# Altium footprint library HGD_Update-20200515.PcbLib: 19 footprints (part 1 of 2)
Each footprint in its own frame and in the unit in brackets; x right, y up, seen from the top. Pads: shape width x height; smd on the part's side, far side on the other; paste and mask are expansions set on the pad; w line width, h text height; cw(c..) or ccw(c..) is an arc to the next point about the centre after c.
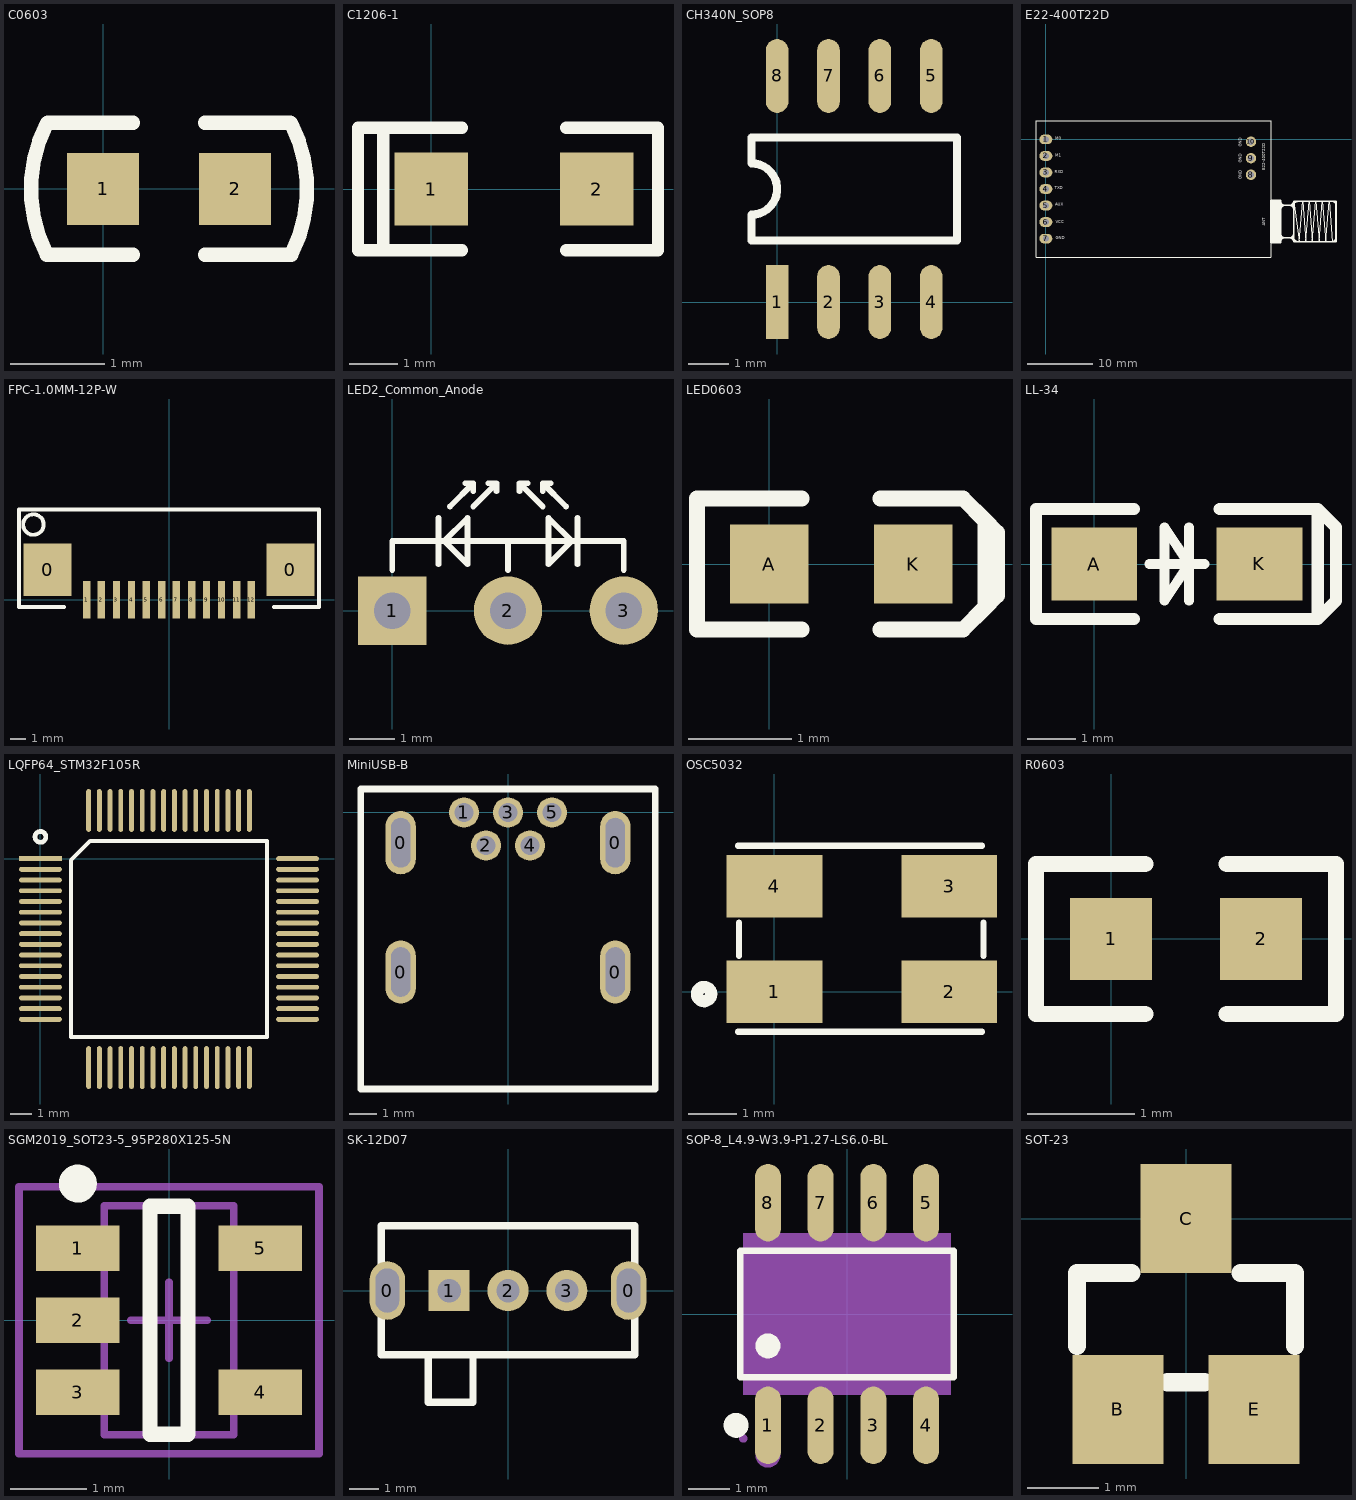
[diagram p0: the footprints below, top view; thin cyan lines are the x and y axes]

## C0603 [mil]
pads (2):
  rect 30x30 smd: 1(0,0) 2(55,0)
Top Overlay:
  lines w6: -23.36,-27.5 cw(c30,-0.07) -23.33,27.42 ; -23,-27.5 12.5,-27.5 ; -23,27.5 12.5,27.5 ; 42.5,-27.5 78,-27.5 ; 42.5,27.5 78,27.5 ; 78.36,-27.5 ccw(c25,-0.07) 78.33,27.42

## C1206-1 [mil] "C1206封装钽电容"
pads (2):
  rect 60x60 smd: 1(0,0) 2(135,0)
Top Overlay:
  lines w10: -39.37,-50 -39.37,50 ; 25,-50 -60,-50 -60,50 25,50 ; 110,-50 185,-50 185,50 110,50

## CH340N_SOP8 [mil]
pads (8):
  rect 22x72 smd: 1(0,0)
  oval 22x72 smd: 2(50,0) 3(100,0) 4(150,0) 5(150,220) 6(100,220) 7(50,220) 8(0,220)
Top Overlay:
  lines w8: -25,60 -25,85 ccw(c-25,110) -25,135 -25,160 175,160 175,60 -25,60

## E22-400T22D [mm]
pads (10):
  oval 2x1.5 hole 0.9: 1(0,0) 2(0,-2.54) 3(0,-5.08) 4(0,-7.62) 5(0,-10.16) 6(0,-12.7) 7(0,-15.24)
  round 1.6 hole 1: 8(31.49,-5.43) 9(31.49,-2.89) 10(31.49,-0.35)
Top Overlay:
  rectangle: 34.571,-15.853 36.071,-9.353
  rectangle: 34.572,-15.858 36.072,-9.358
  lines w0.1: 38.89,-15.72 38.04,-9.52 38.89,-15.72 ; 38.89,-15.72 39.41,-9.52 ; 38.89,-15.72 39.41,-9.52 ; 39.41,-9.52 39.92,-15.72 ; 39.41,-9.52 39.92,-15.72 ; 39.92,-15.72 40.43,-9.52 ; 39.92,-15.72 40.43,-9.52 ; 40.43,-9.52 40.91,-15.72 ; 40.43,-9.52 40.91,-15.72 ; 40.91,-15.72 41.43,-9.52 ; 40.91,-15.72 41.43,-9.52 ; 41.43,-9.52 41.94,-15.72 ; 41.43,-9.52 41.94,-15.72 ; 41.94,-15.72 42.43,-9.52 ; 41.94,-15.72 42.43,-9.52 ; 42.43,-9.52 42.95,-15.72 ; 42.43,-9.52 42.95,-15.72 ; 42.95,-15.72 43.47,-9.52 ; 42.95,-15.72 43.47,-9.52 ; 43.47,-9.52 43.98,-15.72 43.47,-9.52 ; -1.51,-18.12 -1.51,2.88 34.558,2.88 34.558,-18.12 -1.51,-18.12
  lines w0.254: 34.54,-15.87 34.54,-9.37 ; 34.54,-15.87 36.04,-15.87 ; 34.54,-15.87 34.54,-9.37 ; 34.54,-15.87 36.04,-15.87 ; 34.54,-9.37 36.04,-9.37 ; 34.54,-9.37 36.04,-9.37 ; 36.04,-15.87 36.04,-9.37 ; 36.04,-15.87 36.04,-9.37 ; 36.04,-14.47 ccw(c36.69,-14.47) 36.69,-15.12 cw(c36.69,-14.47) 36.04,-14.47 ; 36.04,-14.47 36.04,-14.1 36.04,-14.47 ; 36.04,-10.82 cw(c36.74,-10.82) 36.74,-10.12 ; 36.04,-10.82 cw(c36.74,-10.82) 36.74,-10.12 ; 36.04,-10.82 36.04,-11.74 36.04,-10.82 ; 36.04,-9.49 ccw(c36.67,-9.49) 36.67,-10.12 ; 36.04,-9.49 ccw(c36.67,-9.49) 36.67,-10.12 ; 36.04,-9.49 36.04,-9.37 ; 36.04,-9.49 36.04,-9.37 ; 36.59,-15.12 ccw(c36.59,-15.67) 36.04,-15.67 cw(c36.59,-15.67) 36.59,-15.12 ; 36.59,-15.12 37.44,-15.12 ; 36.59,-15.12 37.44,-15.12 ; 36.67,-10.12 37.44,-10.12 ; 36.67,-10.12 37.44,-10.12 ; 36.74,-10.12 37.44,-10.12 ; 36.74,-10.12 37.44,-10.12 ; 37.41,-15.12 ccw(c37.41,-14.49) 38.04,-14.49 cw(c37.41,-14.49) 37.41,-15.12 ; 37.41,-15.12 36.69,-15.12 37.41,-15.12 ; 37.44,-15.12 cw(c37.44,-15.72) 38.04,-15.72 ; 37.44,-15.12 cw(c37.44,-15.72) 38.04,-15.72 ; 37.44,-10.12 ccw(c37.44,-9.52) 38.04,-9.52 ; 37.44,-10.12 cw(c37.44,-10.72) 38.04,-10.72 ccw(c37.44,-10.72) 37.44,-10.12 ; 37.44,-10.12 ccw(c37.44,-9.52) 38.04,-9.52 ; 38.04,-15.72 44.54,-15.72 ; 38.04,-15.72 38.04,-9.52 ; 38.04,-15.72 44.54,-15.72 ; 38.04,-15.72 38.04,-9.52 ; 38.04,-9.52 44.54,-9.52 ; 38.04,-9.52 44.54,-9.52 ; 38.72,-15.72 cw(c38.72,-15.04) 38.04,-15.04 ccw(c38.72,-15.04) 38.72,-15.72 ; 38.72,-15.72 38.87,-15.72 38.72,-15.72 ; 43.92,-15.72 ccw(c43.92,-15.1) 44.54,-15.1 cw(c43.92,-15.1) 43.92,-15.72 ; 43.92,-15.72 43.69,-15.72 43.92,-15.72 ; 44,-9.52 cw(c44,-10.06) 44.54,-10.06 ccw(c44,-10.06) 44,-9.52 ; 44,-9.52 43.6,-9.52 44,-9.52 ; 44.54,-15.72 44.54,-9.52 ; 44.54,-15.72 44.54,-9.52 ; 35.87,-15.12 38.04,-15.12 35.87,-15.12 ; 36.04,-10.12 38.04,-10.12 36.04,-10.12 ; 38.04,-10.13 cw(c38.65,-10.13) 38.65,-9.52 ccw(c38.65,-10.13) 38.04,-10.13
  text "E22-400T22D" at 33.806,-4.771 h0.76
  text "GND" at 30.206,-6.121 h0.76
  text "GND" at 30.206,-3.621 h0.76
  text "GND" at 30.206,-1.121 h0.76
  text "ANT" at 33.831,-13.271 h0.76
  text "M0" at 1.473,-0.229 h0.76
  text "M1" at 1.422,-2.845 h0.76
  text "RXD" at 1.397,-5.334 h0.76
  text "TXD" at 1.368,-7.823 h0.76
  text "AUX" at 1.422,-10.338 h0.76
  text "VCC" at 1.549,-13.005 h0.76
  text "GND" at 1.499,-15.469 h0.76

## FPC-1.0MM-12P-W [mm] "FPC-1.0MM-12P-W：卧式，抽拉式上接，12P"
height 2.5
pads (14):
  rect 3.2x3.5 smd: 0(-8.1,2) 0(8.1,2)
  rect 0.5x2.5 smd: 1(-5.5,0) 2(-4.5,0) 3(-3.5,0) 4(-2.5,0) 5(-1.5,0) 6(-0.5,0) 7(0.5,0) 8(1.5,0) 9(2.5,0) 10(3.5,0) 11(4.5,0) 12(5.5,0)
Top Overlay:
  circle w0.254: c-9.04,5.004 r0.683
  lines w0.254: -7,-0.5 -10,-0.5 -10,6 10,6 10,-0.5 7,-0.5

## LED2_Common_Anode [mm] "LED2_Common_Anode：双色3mm共阳极LED"
pads (3):
  rect 1.5x1.5 hole 0.8: 1(0,0)
  round 1.5 hole 0.8: 2(2.54,0) 3(5.08,0)
Top Overlay:
  lines w0.127: 0,0.889 0,1.524 2.54,1.524 ; 1.016,1.016 1.016,2.032 ; 1.27,2.286 1.778,2.794 ; 1.6,2.794 1.778,2.794 ; 1.778,2.286 2.286,2.794 ; 1.778,2.616 1.778,2.794 ; 2.108,2.794 2.286,2.794 ; 2.286,2.616 2.286,2.794 ; 2.794,2.616 2.794,2.794 ; 2.972,2.794 2.794,2.794 ; 3.302,2.286 2.794,2.794 ; 3.302,2.616 3.302,2.794 ; 3.48,2.794 3.302,2.794 ; 3.81,2.286 3.302,2.794 ; 4.064,1.016 4.064,2.032 ; 5.08,0.889 5.08,1.524 2.54,1.524 ; 2.54,1.524 2.54,0.889 2.54,1.524 ; 1.143,1.524 1.651,1.016 1.651,2.032 1.143,1.524 ; 3.429,1.016 3.937,1.524 3.429,2.032 3.429,1.016

## LED0603 [mil]
pads (2):
  rect 30x30 smd: A(0,0) K(55,0)
Top Overlay:
  lines w6: 12.5,-25 -27.5,-25 -27.5,25 12.5,25 ; 42.5,-25 74,-25 82.5,-16.5 ; 42.5,25 74,25 82.5,16.5 ; 82.5,-16.5 82.5,16.5 ; 82.5,-16.5 87,-12 87,12 82.5,16.5

## LL-34 [mil] "开关二极管LL-34封装"
pads (2):
  rect 70x60 smd: A(0,0) K(135,0)
Top Overlay:
  lines w8: 45,0 90,0 ; 77.5,-30 77.5,30 ; 57.5,-30 77.5,0 57.5,30 57.5,-30
  lines w10: 32.5,-45 -47.5,-45 -47.5,45 32.5,45 ; 102.5,-45 182.5,-45 ; 102.5,45 182.5,45 ; 182.5,-45 197.5,-30 197.5,30 182.5,45 ; 182.5,-45 182.5,45

## LQFP64_STM32F105R [mm]
pads (64):
  rect 2x0.229 smd: 1(0,0)
  oval 2x0.229 smd: 2(0,-0.5) 3(0,-1) 4(0,-1.5) 5(0,-2) 6(0,-2.5) 7(0,-3) 8(0,-3.5) 9(0,-4) 10(0,-4.5) 11(0,-5) 12(0,-5.5) 13(0,-6) 14(0,-6.5) 15(0,-7) 16(0,-7.5) 33(12,-7.5) 34(12,-7) 35(12,-6.5) 36(12,-6) 37(12,-5.5) 38(12,-5) 39(12,-4.5) 40(12,-4) 41(12,-3.5) 42(12,-3) 43(12,-2.5) 44(12,-2) 45(12,-1.5) 46(12,-1) 47(12,-0.5) 48(12,0)
  oval 0.229x2 smd: 17(2.25,-9.75) 18(2.75,-9.75) 19(3.25,-9.75) 20(3.75,-9.75) 21(4.25,-9.75) 22(4.75,-9.75) 23(5.25,-9.75) 24(5.75,-9.75) 25(6.25,-9.75) 26(6.75,-9.75) 27(7.25,-9.75) 28(7.75,-9.75) 29(8.25,-9.75) 30(8.75,-9.75) 31(9.25,-9.75) 32(9.75,-9.75) 49(9.75,2.25) 50(9.25,2.25) 51(8.75,2.25) 52(8.25,2.25) 53(7.75,2.25) 54(7.25,2.25) 55(6.75,2.25) 56(6.25,2.25) 57(5.75,2.25) 58(5.25,2.25) 59(4.75,2.25) 60(4.25,2.25) 61(3.75,2.25) 62(3.25,2.25) 63(2.75,2.25) 64(2.25,2.25)
Top Overlay:
  circle w0.22: c0,1.016 r0.254
  lines w0.203: 1.428,-8.322 10.572,-8.322 10.572,0.822 2.317,0.822 1.428,-0.067 1.428,-8.322

## MiniUSB-B [mm]
pads (9):
  oval 1.1x2.3 hole 0.7 slot 1.8 at 90 deg: 0(-3.9,-5.8) 0(-3.9,-1.1) 0(3.9,-5.8) 0(3.9,-1.1)
  round 1.1 hole 0.7: 1(-1.6,0) 2(-0.8,-1.2) 3(0,0) 4(0.8,-1.2) 5(1.6,0)
Top Overlay:
  lines w0.254: -5.354,-10.054 5.354,-10.054 5.354,0.854 -5.354,0.854 -5.354,-10.054

## OSC5032 [mm]
pads (4):
  rect 2x1.3 smd: 1(0,0) 2(3.65,0) 3(3.65,2.2) 4(0,2.2)
Top Overlay:
  circle w0.254: c-1.469,-0.051 r0.148
  lines w0.127: -0.762,-0.838 4.338,-0.838 ; -0.762,3.048 4.338,3.048 ; -0.737,0.748 -0.737,1.448 ; 4.369,0.748 4.369,1.448

## R0603 [mil]
pads (2):
  rect 30x30 smd: 1(0,0) 2(55,0)
Top Overlay:
  lines w6: 12.5,-27.5 -27.5,-27.5 -27.5,27.5 12.5,27.5 ; 42.5,-27.5 82.5,-27.5 82.5,27.5 42.5,27.5

## SGM2019_SOT23-5_95P280X125-5N [mm] "SOT23, 5-Leads, Body 3.0x3.0mm (max), Pitch 0.95mm, IPC Medium Density"
height 1.25
pads (5):
  rect 1.1x0.6 smd: 1(-1.2,0.95) 2(-1.2,0) 3(-1.2,-0.95) 4(1.2,-0.95) 5(1.2,0.95)
Top Overlay:
  circle w0.25: c-1.2,1.8 r0.125
  lines w0.2: -0.25,-1.5 0.25,-1.5 0.25,1.5 -0.25,1.5 -0.25,-1.5
Mechanical 13:
  lines w0.1: -0.85,-1.51 -0.85,1.51 0.85,1.51 0.85,-1.51 -0.85,-1.51
Mechanical 15:
  lines w0.1: -0.5,0 0.5,0 ; 0,-0.5 0,0.5 ; -1.975,-1.76 -1.975,1.76 1.975,1.76 1.975,-1.76 -1.975,-1.76
3D body: height 1.25, standoff 0.1, extent -0.85,-1.51 0.85,1.51

## SK-12D07 [mm]
pads (5):
  oval 1.2x2 hole 0.8 slot 1.5 at 90 deg: 0(-4.115,0) 0(4.115,0)
  rect 1.4x1.4 hole 0.8: 1(-2.007,0)
  round 1.4 hole 0.8: 2(0,0) 3(2.007,0)
Top Overlay:
  lines w0.254: -2.718,-2.184 -2.718,-3.81 -1.219,-3.81 ; -1.194,-3.81 -1.194,-2.184 ; -4.318,-2.184 4.318,-2.184 4.318,2.21 -4.318,2.21 -4.318,-2.184

## SOP-8_L4.9-W3.9-P1.27-LS6.0-BL [mm]
pads (8):
  oval 0.63x1.865 smd: 1(-1.905,-2.682) 2(-0.635,-2.682) 3(0.635,-2.682) 4(1.905,-2.682) 5(1.905,2.682) 6(0.635,2.682) 7(-0.635,2.682) 8(-1.905,2.682)
Top Overlay:
  circle w0.3: c-2.672,-2.682 r0.15
  circle w0.3: c-1.905,-0.769 r0.15
  lines w0.152: -2.576,-1.521 2.576,-1.521 2.576,1.521 -2.576,1.521 -2.576,-1.521
Mechanical 4:
  region: -2.5,-1.95 -2.5,1.95 2.5,1.95 2.5,-1.95
Mechanical 5:
  region: -2.115,-3 -2.115,-2.165 -1.695,-2.165 -1.695,-3
  pour cut-out: -2.115,-2.175 -2.115,-1.94 -1.695,-1.94 -1.695,-2.175
  region: -0.845,-3 -0.845,-2.165 -0.425,-2.165 -0.425,-3
  pour cut-out: -0.845,-2.175 -0.845,-1.94 -0.425,-1.94 -0.425,-2.175
  region: 0.425,-3 0.425,-2.165 0.845,-2.165 0.845,-3
  pour cut-out: 0.425,-2.175 0.425,-1.94 0.845,-1.94 0.845,-2.175
  region: 1.695,-3 1.695,-2.165 2.115,-2.165 2.115,-3
  pour cut-out: 1.695,-2.175 1.695,-1.94 2.115,-1.94 2.115,-2.175
  region: -2.115,2.165 -2.115,3 -1.695,3 -1.695,2.165
  pour cut-out: -2.115,1.94 -2.115,2.175 -1.695,2.175 -1.695,1.94
  region: -0.845,2.165 -0.845,3 -0.425,3 -0.425,2.165
  pour cut-out: -0.845,1.94 -0.845,2.175 -0.425,2.175 -0.425,1.94
  region: 0.425,2.165 0.425,3 0.845,3 0.845,2.165
  pour cut-out: 0.425,1.94 0.425,2.175 0.845,2.175 0.845,1.94
  region: 1.695,2.165 1.695,3 2.115,3 2.115,2.165
  pour cut-out: 1.695,1.94 1.695,2.175 2.115,2.175 2.115,1.94
Mechanical 6:
  circle w0.1: c-2.5,-3 r0.05
Mechanical 15:
  circle w0.3: c-1.905,-3.4 r0.15

## SOT-23 [mil]
pads (3):
  rect 50x60 smd: B(-37.5,-105) C(0,0) E(37.5,-105)
Top Overlay:
  lines w10: -60,-70 -60,-30 -30,-30 ; -10,-90 10,-90 ; 30,-30 60,-30 60,-70